# Altium footprint library Hamilton.PcbLib: 2 footprints
Each footprint in its own frame and in the unit in brackets; x right, y up, seen from the top. Pads: shape width x height; smd on the part's side, far side on the other; paste and mask are expansions set on the pad; w line width, h text height; cw(c..) or ccw(c..) is an arc to the next point about the centre after c.
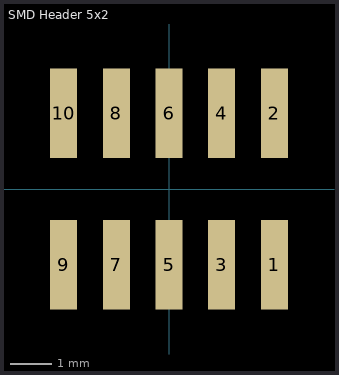
[diagram p0: the footprints below, top view; thin cyan lines are the x and y axes]

## Lord CX5 [mm]
3D body "CV7_Assembly_Cust.stp": height 8.61, standoff 0, extent -35.255,-11.989 2.743,11.989

## SMD Header 5x2 [mm]
pads (10):
  rect 0.65x2.15 smd: 1(2.54,-1.825) 2(2.54,1.825) 3(1.27,-1.825) 4(1.27,1.825) 5(0,-1.825) 6(0,1.825) 7(-1.27,-1.825) 8(-1.27,1.825) 9(-2.54,-1.825) 10(-2.54,1.825)
3D body "20021321-1010xxlfc.stp": height 4.5, standoff 0, extent -3.405,-2.25 3.405,2.25